# Altium schematic symbol library 5v.SchLib: 1 symbol
Pins are listed as number, name and electrical type; pins without a type are passive.

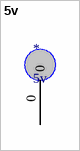
[diagram p0: symbol 5v]

## 5v
designator *
footprint 5v
pins: 0